# Altium footprint library ECSlib.PcbLib: 67 footprints (part 5 of 5)
Each footprint in its own frame and in the unit in brackets; x right, y up, seen from the top. Pads: shape width x height; smd on the part's side, far side on the other; paste and mask are expansions set on the pad; w line width, h text height; cw(c..) or ccw(c..) is an arc to the next point about the centre after c.
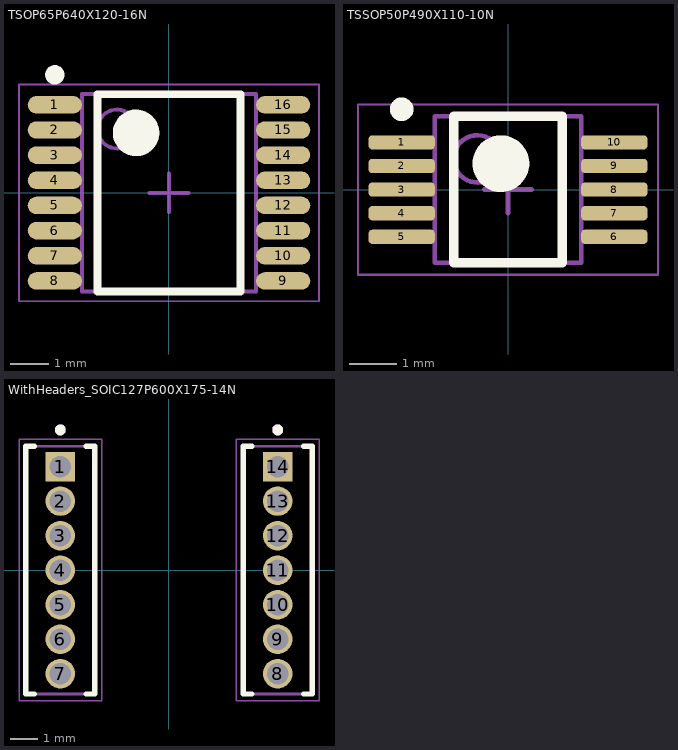
[diagram p4: the footprints below, top view; thin cyan lines are the x and y axes]

## TSOP65P640X120-16N [mm] "TSOP, 16-Leads, Body 5.00x4.40mm, Pitch 0.65mm, IPC Medium Density"
height 1.2
pads (16):
  oval 1.4x0.45 smd: 1(-2.95,2.275) 2(-2.95,1.625) 3(-2.95,0.975) 4(-2.95,0.325) 5(-2.95,-0.325) 6(-2.95,-0.975) 7(-2.95,-1.625) 8(-2.95,-2.275) 9(2.95,-2.275) 10(2.95,-1.625) 11(2.95,-0.975) 12(2.95,-0.325) 13(2.95,0.325) 14(2.95,0.975) 15(2.95,1.625) 16(2.95,2.275)
Top Overlay:
  circle w0.6: c-0.85,1.55 r0.3
  circle w0.25: c-2.95,3.05 r0.125
  lines w0.2: -1.85,-2.55 1.85,-2.55 1.85,2.55 -1.85,2.55 -1.85,-2.55
Assembly Top:
  circle w0.1: c-1.35,1.65 r0.5
  lines w0.1: -2.25,-2.55 2.25,-2.55 2.25,2.55 -2.25,2.55 -2.25,-2.55
Courtyard Top:
  lines w0.05: -3.875,-2.8 3.875,-2.8 3.875,2.8 -3.875,2.8 -3.875,-2.8
  lines w0.1: -0.5,0 0.5,0 ; 0,-0.5 0,0.5
3D body: height 1.2, standoff 0.15, extent -2.25,-2.55 2.25,2.55

## TSSOP50P490X110-10N [mm] "TSSOP, 10-Leads, Body 3.00x3.00mm, Pitch 0.50mm, IPC Medium Density"
height 1.1
pads (10):
  rrect50% 1.4x0.3 smd: 1(-2.25,1) 2(-2.25,0.5) 3(-2.25,0) 4(-2.25,-0.5) 5(-2.25,-1) 6(2.25,-1) 7(2.25,-0.5) 8(2.25,0) 9(2.25,0.5) 10(2.25,1)
Top Overlay:
  circle w0.25: c-2.25,1.7 r0.125
  circle w0.6: c-0.15,0.55 r0.3
  lines w0.2: -1.15,-1.55 -1.15,1.55 1.15,1.55 1.15,-1.55 -1.15,-1.55
Assembly Top:
  circle w0.1: c-0.65,0.65 r0.5
  lines w0.1: -1.55,-1.55 -1.55,1.55 1.55,1.55 1.55,-1.55 -1.55,-1.55
Courtyard Top:
  lines w0.05: -3.175,-1.8 -3.175,1.8 3.175,1.8 3.175,-1.8 -3.175,-1.8
  lines w0.1: -0.5,0 0.5,0 ; 0,-0.5 0,0.5
3D body: height 1.1, standoff 0.05, extent -1.55,-1.55 1.55,1.55

## WithHeaders_SOIC127P600X175-14N [mm] "SOIC, 14-Leads, Body 8.65x3.90mm, Pitch 1.27mm, IPC Medium Density"
height 1.75
pads (14):
  rect 1.087x1.087 hole 0.787: 1(-4,3.81) 14(4,3.81)
  round 1.087 hole 0.787: 2(-4,2.54) 3(-4,1.27) 4(-4,0) 5(-4,-1.27) 6(-4,-2.54) 7(-4,-3.81) 8(4,-3.81) 9(4,-2.54) 10(4,-1.27) 11(4,0) 12(4,1.27) 13(4,2.54)
Top Overlay:
  circle w0.2: c-4,5.16 r0.1
  circle w0.2: c4,5.16 r0.1
  lines w0.2: -4.95,-4.56 -5.27,-4.56 -5.27,4.56 -4.95,4.56 ; -3.05,-4.56 -2.73,-4.56 -2.73,4.56 -3.05,4.56 ; 3.05,-4.56 2.73,-4.56 2.73,4.56 3.05,4.56 ; 4.95,-4.56 5.27,-4.56 5.27,4.56 4.95,4.56
Mechanical 13:
  circle w0.2: c-4,5.16 r0.1
  circle w0.2: c4,5.16 r0.1
  lines w0.1: -5.27,-4.56 -5.27,4.56 -2.73,4.56 -2.73,-4.56 -5.27,-4.56 ; 2.73,-4.56 2.73,4.56 5.27,4.56 5.27,-4.56 2.73,-4.56
Mechanical 15:
  lines w0.05: -5.52,-4.81 -5.52,4.81 -2.48,4.81 -2.48,-4.81 -5.52,-4.81 ; 2.48,-4.81 2.48,4.81 5.52,4.81 5.52,-4.81 2.48,-4.81
3D body "SLM-107-01-G-S.stp": height 4.57, standoff -2.92, extent -5.27,-4.559 -2.73,4.559
3D body "SLM-107-01-G-S.stp": height 4.57, standoff -2.92, extent 2.73,-4.559 5.27,4.559
3D body "ELN1_diffamp_MAT14.step": height 10.45, standoff -1.29, extent -5.5,-5 5.5,5